# Altium footprint library 2512.PcbLib: 1 footprints
Each footprint in its own frame and in the unit in brackets; x right, y up, seen from the top. Pads: shape width x height; smd on the part's side, far side on the other; paste and mask are expansions set on the pad; w line width, h text height; cw(c..) or ccw(c..) is an arc to the next point about the centre after c.
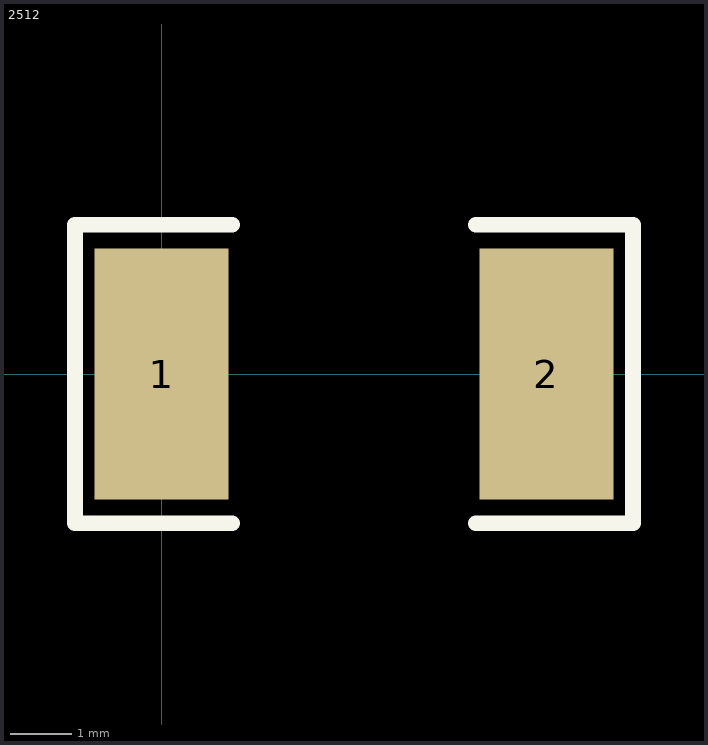
[diagram p0: the footprint, top view; thin cyan lines are the x and y axes]

## 2512 [mil]
pads (2):
  rect 85x160 smd: 1(0,0) 2(245,0)
Top Overlay:
  lines w10: 45,-95 -55,-95 -55,95 45,95 ; 200,-95 300,-95 300,95 200,95
3D body: height 63.07, standoff 0, extent -1,-59 249,59.11